# EAGLE library part CLV1607A-LF (library rfops)
ZCOMM VCO
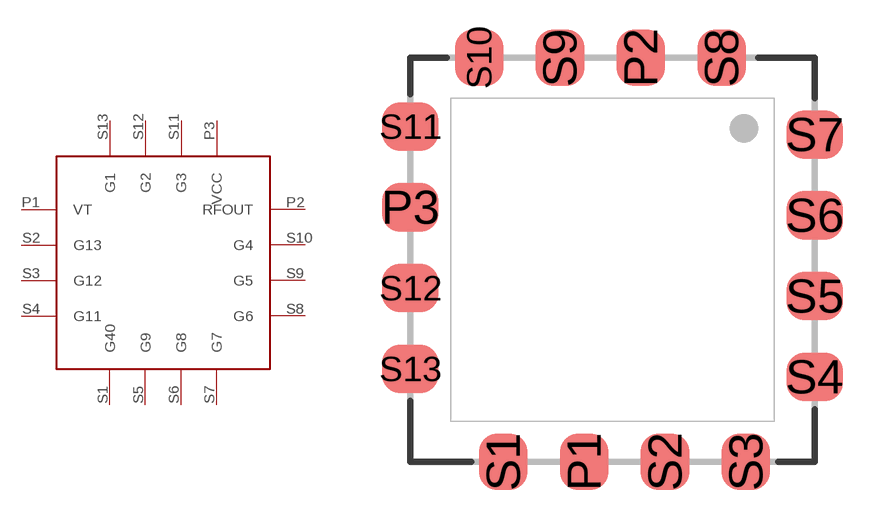
[diagram p16: symbol with the pads of MINI-16; footprint MINI-16]

Designator prefix VCO

## CLV1607A-LF  [MINI-16]
P1  VT  in
P2  RFOUT  out
P3  VCC  pwr
S1  G40  pwr
S2  G13  pwr
S3  G12  pwr
S4  G11  pwr
S5  G9  pwr
S6  G8  pwr
S7  G7  pwr
S8  G6  pwr
S9  G5  pwr
S10  G4  pwr
S11  G3  pwr
S12  G2  pwr
S13  G1  pwr

## Footprint MINI-16 (pad centres in mm)
ZCOMM VCO Package
smd 1.524 x 1.778: P1 -0.889,-6.35; P2 0.889,6.35; S1 -3.429,-6.35; S2 1.651,-6.35; S3 4.191,-6.35; S8 3.429,6.35; S9 -1.651,6.35; S10 -4.191,6.35
smd 1.778 x 1.524: P3 -6.35,1.651; S4 6.35,-3.683; S5 6.35,-1.143; S6 6.35,1.397; S7 6.35,3.937; S11 -6.35,4.191; S12 -6.35,-0.889; S13 -6.35,-3.429